# Altium schematic symbol library 1N5819.SchLib: 1 symbol
Pins are listed as number, name and electrical type; pins without a type are passive.

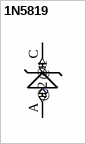
[diagram p0: symbol 1N5819]

## 1N5819
designator ?  (value not drawn)
/ Diode Schottky 40V 1A Through Hole DO-41 /; MF: STMicroelectronics; MP: 1N5819; SnapEDA_Link: https://www.snapeda.com/parts/1N5819/STMicroelectronics/view-part/2598553/?ref=snap; Price: None; Availability: Unavailable; Package: DO-41 STMicroelectronics; Value: *
footprint *DO41-7.6_1N5819(Primary)
pins: A @1 (io), C @2 (io)